# EAGLE library part 4X4_LEDGRID (library NSL)
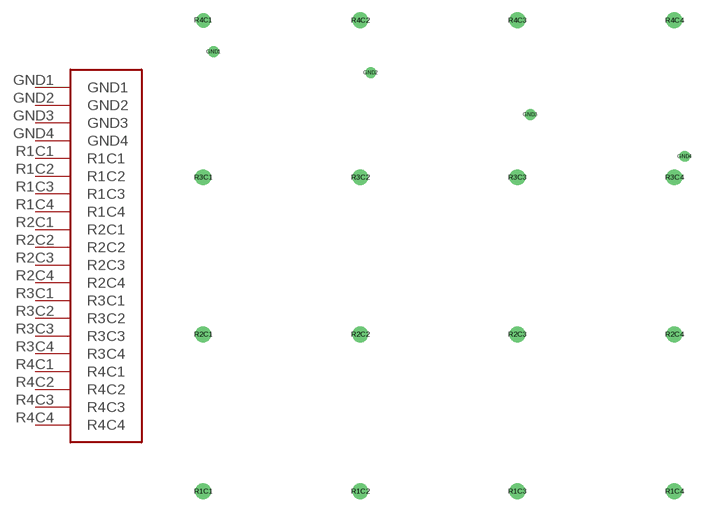
[diagram p5: symbol with the pads of LEDARRAY; footprint LEDARRAY]

Designator prefix -

## 4X4_LEDGRID  [LEDARRAY]
GND1  GND1
GND2  GND2
GND3  GND3
GND4  GND4
R1C1  R1C1
R1C2  R1C2
R1C3  R1C3
R1C4  R1C4
R2C1  R2C1
R2C2  R2C2
R2C3  R2C3
R2C4  R2C4
R3C1  R3C1
R3C2  R3C2
R3C3  R3C3
R3C4  R3C4
R4C1  R4C1
R4C2  R4C2
R4C3  R4C3
R4C4  R4C4

## Footprint LEDARRAY (pad centres in mm)
drill 0.8 round: GND1 -26.67,24.13; GND2 -7.62,21.59; GND3 11.735,16.51; GND4 30.48,11.43
drill 0.9 pad 1.93 round: R1C1 -27.94,-29.21; R1C2 -8.89,-29.21; R1C3 10.16,-29.21; R1C4 29.21,-29.21; R2C1 -27.94,-10.16; R2C2 -8.89,-10.16; R2C3 10.16,-10.16; R2C4 29.21,-10.16; R3C1 -27.94,8.89; R3C2 -8.89,8.89; R3C3 10.16,8.89; R3C4 29.21,8.89; R4C2 -8.89,27.94; R4C3 10.16,27.94; R4C4 29.21,27.94
drill 0.9 pad 1.778 round: R4C1 -27.94,27.94